# Altium footprint library lm3886 PcbLib.PcbLib: 19 footprints (part 1 of 2)
Each footprint in its own frame and in the unit in brackets; x right, y up, seen from the top. Pads: shape width x height; smd on the part's side, far side on the other; paste and mask are expansions set on the pad; w line width, h text height; cw(c..) or ccw(c..) is an arc to the next point about the centre after c.
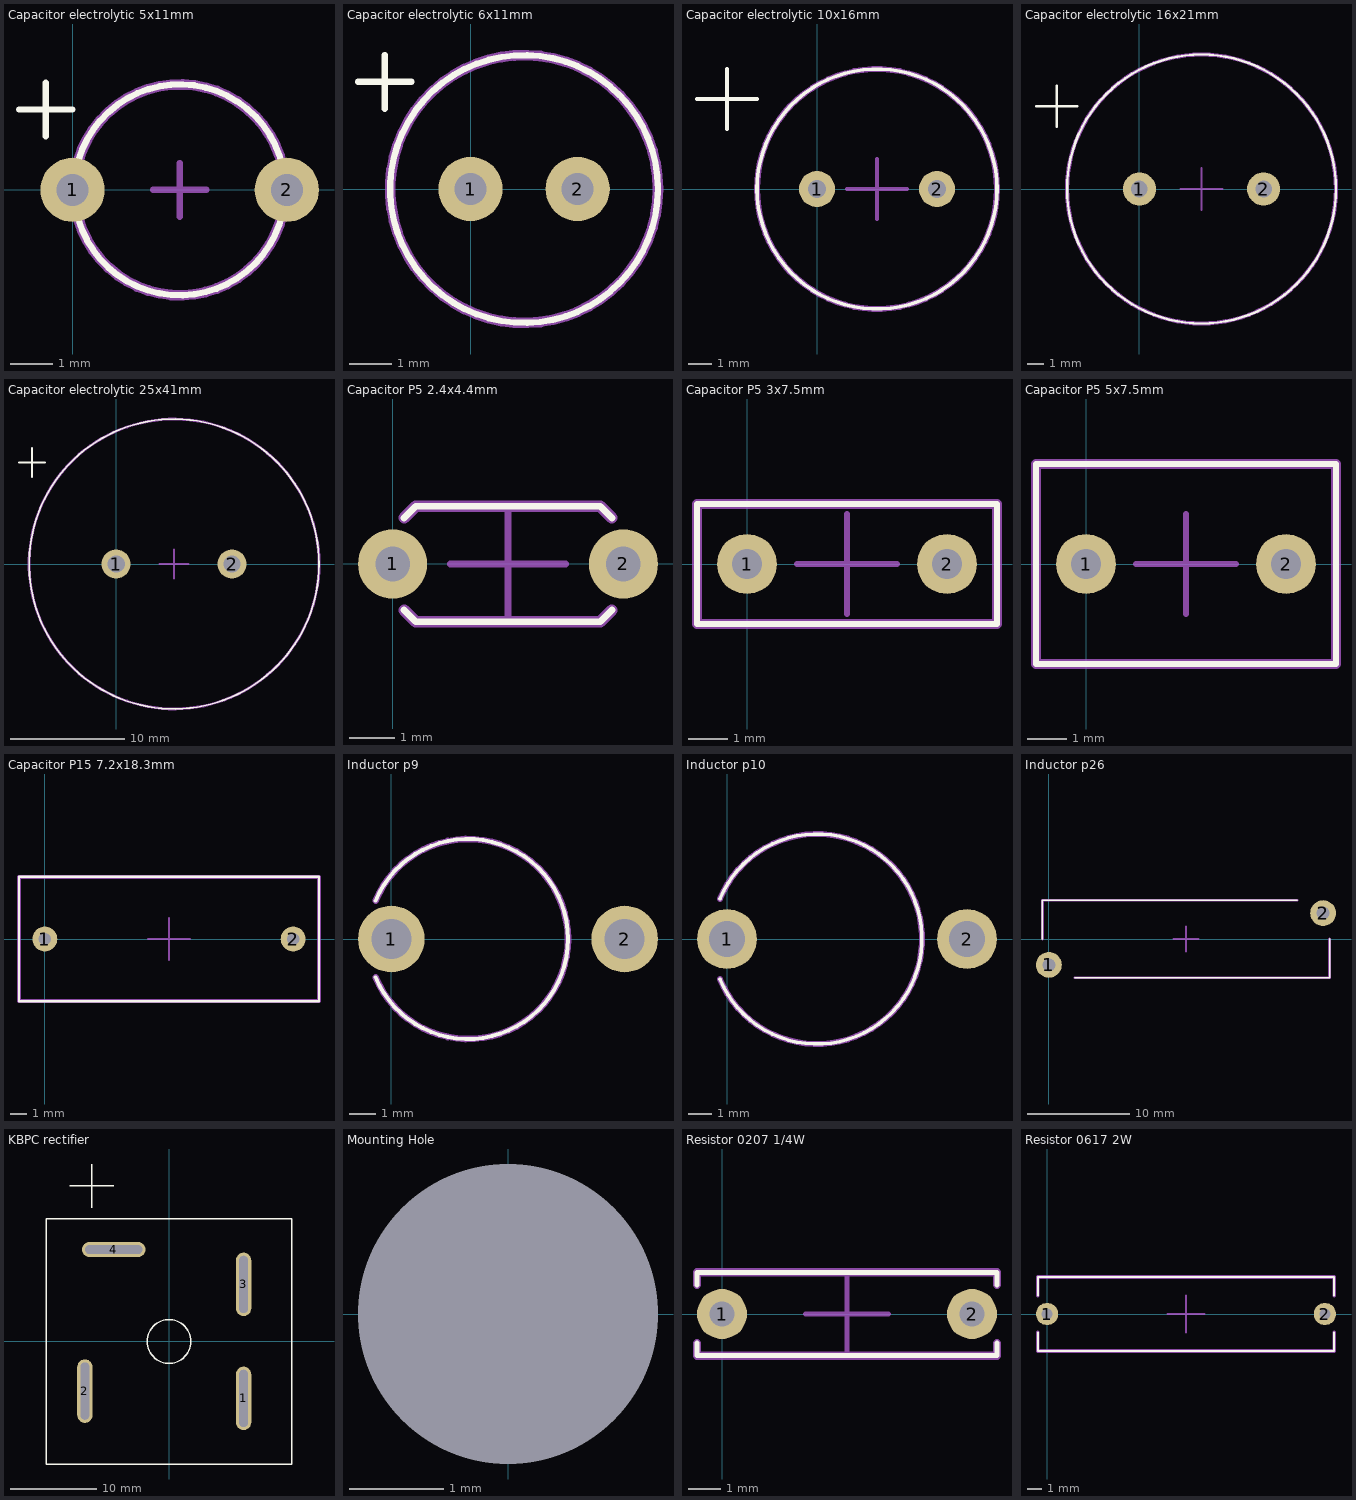
[diagram p0: the footprints below, top view; thin cyan lines are the x and y axes]

## Capacitor electrolytic 5x11mm [mil]
pads (2):
  round 60 hole 30: 1(0,0) 2(200,0)
Top Overlay:
  circle w5.91: c100,0 r98.43
  lines w5.91: -50,75 0,75 ; -25,50 -25,100
Top Assembly:
  circle w5.91: c100,0 r98.43
Top Courtyard:
  circle w10: c100,0 r98.43
Top Component Center:
  lines w5.91: 75,0 125,0 ; 100,-25 100,25
3D body: height 118.11, standoff 78.74, extent 150.16,-10 169.84,9.69
3D body: height 88.09, standoff 32.41, extent 152.16,-10 207.84,9.69
3D body: height 39.37, standoff -78.74, extent 190.16,-9.84 209.84,9.84
3D body: height 118.11, standoff 78.74, extent 30,-9.84 49.69,9.84
3D body: height 88.09, standoff 32.41, extent -7.84,-10 47.84,9.69
3D body: height 39.37, standoff -78.74, extent -9.84,-9.84 9.84,9.84
3D body: height 533.07, standoff 100, extent 1.57,-98.43 198.43,98.43

## Capacitor electrolytic 6x11mm [mil]
pads (2):
  round 60 hole 30: 1(0,0) 2(100,0)
Top Overlay:
  circle w5.91: c50,0 r125
  lines w5.91: -105,100 -55,100 ; -80,75 -80,125
Top Assembly:
  circle w5.91: c50,0 r125
Top Courtyard:
  circle w10: c50,0 r125
Top Component Center:
  lines w5.91: 75,0 125,0 ; 100,-25 100,25
3D body: height 433.07, standoff 0, extent -75,-125 175,125
3D body: height 0, standoff -100, extent -9.84,-9.84 9.84,9.84
3D body: height 0, standoff -100, extent 90.16,-9.84 109.84,9.84

## Capacitor electrolytic 10x16mm [mil]
pads (2):
  round 60 hole 30: 1(0,0) 2(200,0)
Top Overlay:
  circle w5.91: c100,0 r200
  lines w5.91: -200,150 -100,150 ; -150,100 -150,200
Top Assembly:
  circle w5.91: c100,0 r200
Top Courtyard:
  circle w10: c100,0 r200
Top Component Center:
  lines w5.91: 50,0 150,0 ; 100,-50 100,50
3D body: height 650, standoff 0, extent -100,-200 300,200
3D body: height 0, standoff -50, extent 190,-10 210,10
3D body: height 0, standoff -50, extent -10,-10 10,10

## Capacitor electrolytic 16x21mm [mil]
pads (2):
  round 80 hole 40: 1(0,0) 2(300,0)
Top Overlay:
  circle w5.91: c150,0 r325
  lines w5.91: -250,200 -150,200 ; -200,150 -200,250
Top Assembly:
  circle w5.91: c150,0 r325
Top Courtyard:
  circle w10: c150,0 r325
Top Component Center:
  lines w5.91: 100,0 200,0 ; 150,-50 150,50
3D body: height 850, standoff 0, extent -175,-325 475,325
3D body: height 0, standoff -50, extent 280,-20 320,20
3D body: height 0, standoff -50, extent -20,-20 20,20

## Capacitor electrolytic 25x41mm [mil]
pads (2):
  round 100 hole 60: 1(0,0) 2(400,0)
Top Overlay:
  circle w5.91: c200,0 r500
  lines w5.91: -335,350 -245,350 ; -290,300 -290,400
Top Assembly:
  circle w5.91: c200,0 r500
Top Courtyard:
  circle w10: c200,0 r500
Top Component Center:
  lines w5.91: 150,0 250,0 ; 200,-50 200,50
3D body: height 0, standoff -50, extent 370,-30 430,30
3D body: height 0, standoff -50, extent -30,-30 30,30
3D body: height 1600, standoff 0, extent -300,-500 700,500

## Capacitor P5 2.4x4.4mm [mil]
pads (2):
  round 60 hole 30: 1(0,0) 2(200,0)
Top Overlay:
  lines w5.91: 10,-40 20,-50 180,-50 190,-40 ; 10,40 20,50 180,50 190,40
Top Assembly:
  lines w5.91: 10,-40 20,-50 180,-50 190,-40 ; 10,40 20,50 180,50 190,40
Top Courtyard:
  lines w10: 10,-40 20,-50 180,-50 190,-40 ; 10,40 20,50 180,50 190,40
Top Component Center:
  lines w5.91: 50,0 150,0 ; 100,-50 100,50

## Capacitor P5 3x7.5mm [mil]
pads (2):
  round 60 hole 30: 1(0,0) 2(200,0)
Top Overlay:
  lines w5.91: -50,-60 -50,60 250,60 250,-60 -50,-60
Top Assembly:
  lines w5.91: -50,-60 -50,60 250,60 250,-60 -50,-60
Top Courtyard:
  lines w10: -50,-60 -50,60 250,60 250,-60 -50,-60
Top Component Center:
  lines w5.91: 50,0 150,0 ; 100,-50 100,50

## Capacitor P5 5x7.5mm [mil]
pads (2):
  round 60 hole 30: 1(0,0) 2(200,0)
Top Overlay:
  lines w5.91: -50,-100 -50,100 250,100 250,-100 -50,-100
Top Assembly:
  lines w5.91: -50,-100 -50,100 250,100 250,-100 -50,-100
Top Courtyard:
  lines w10: -50,-100 -50,100 250,100 250,-100 -50,-100
Top Component Center:
  lines w5.91: 50,0 150,0 ; 100,-50 100,50
3D body: height 0, standoff -50, extent -10,-10 10,10
3D body: height 0, standoff -50, extent 190,-10 210,10
3D body: height 400, standoff 0, extent -50,-100 250,100

## Capacitor P15 7.2x18.3mm [mil]
pads (2):
  round 60 hole 30: 1(0,0) 2(600,0)
Top Overlay:
  lines w5.91: -62.52,-150 -62.52,150 662.52,150 662.52,-150 -62.52,-150
Top Assembly:
  lines w5.91: -62.52,-150 -62.52,150 662.52,150 662.52,-150 -62.52,-150
Top Courtyard:
  lines w10: -62.52,-150 -62.52,150 662.52,150 662.52,-150 -62.52,-150
Top Component Center:
  lines w5.91: 250,0 350,0 ; 300,-50 300,50

## Inductor p9 [mil]
pads (2):
  round 100 hole 60: 1(0,0) 2(350,0)
Top Overlay:
  lines w5.91: -23.58,-57.4 ccw(c115,0) -23.58,57.4
Top Assembly:
  lines w5.91: -23.58,-57.4 ccw(c115,0) -23.58,57.4
Top Courtyard:
  lines w10: -23.58,-57.4 ccw(c115,0) -23.58,57.4
3D body: height 450.02, standoff 395.02, extent 265,-27.5 356.22,27.5
3D body: height 422.52, standoff -50, extent 322.5,-27.5 377.5,27.5
3D body: height 150, standoff -50, extent -27.5,-27.5 27.5,27.5
3D body: height 600, standoff 0, extent 40,-75 190,75
3D body: height 450, standoff 150, extent -35,-150 265,150

## Inductor p10 [mil]
pads (2):
  round 100 hole 60: 1(0,0) 2(400,0)
Top Overlay:
  lines w5.91: -11.68,-66.97 ccw(c150,0) -11.68,66.97
Top Assembly:
  lines w5.91: -11.68,-66.97 ccw(c150,0) -11.68,66.97
Top Courtyard:
  lines w10: -11.68,-66.97 ccw(c150,0) -11.68,66.97
3D body: height 600, standoff 0, extent 25,-125 275,125
3D body: height 450, standoff 100, extent -25,-175 325,175
3D body: height 150, standoff -50, extent -27.5,-27.5 27.5,27.5
3D body: height 450, standoff -50, extent 372.5,-27.5 427.5,27.5
3D body: height 477.48, standoff 422.52, extent 275,-27.48 425,27.48

## Inductor p26 [mm]
pads (2):
  round 2.54 hole 1.27: 1(0,-2.54) 2(26.94,2.54)
Top Overlay:
  lines w0.15: -0.635,0 -0.635,3.81 24.4,3.81 ; 2.54,-3.81 27.575,-3.81 27.575,0
Top Assembly:
  lines w0.15: -0.635,0 -0.635,3.81 24.4,3.81 ; 2.54,-3.81 27.575,-3.81 27.575,0
Top Courtyard:
  lines w0.254: -0.635,0 -0.635,3.81 24.4,3.81 ; 2.54,-3.81 27.575,-3.81 27.575,0
Top Component Center:
  lines w0.15: 12.2,0 14.74,0 ; 13.47,-1.27 13.47,1.27
3D body: height 7.62, standoff 0, extent 0,-3.81 26.94,3.81
3D body: height 5.08, standoff -2.54, extent -0.25,-2.79 0.25,-2.29
3D body: height 0, standoff -2.54, extent 26.69,2.29 27.19,2.79

## KBPC rectifier [mil]
pads (4):
  oval 70x290 hole 40 slot 260 at 90 deg: 1(340.12,-259.84) 2(-383.43,-226.38) 3(340.12,259.84)
  oval 290x70 hole 40 slot 260 at 0 deg: 4(-251.97,418.86)
Top Overlay:
  circle w5.91: c0,0 r100
  lines w5.91: -451.97,709.06 -251.97,709.06 ; -351.97,609.06 -351.97,809.06 ; -559.06,-559.06 -559.06,559.06 559.06,559.06 559.06,-559.06 -559.06,-559.06
3D body: height 437.2, standoff -0.2, extent -100,-100 100,100
3D body: height 437.01, standoff 0, extent -560,-560 560,560

## Mounting Hole [mm]
pads (1):
  round 0 hole 3.2 unplated: ""(0,0)

## Resistor 0207 1/4W [mil]
pads (2):
  round 60 hole 30: 1(0,0) 2(300,0)
Top Overlay:
  lines w5.91: -30,-35 -30,-50 330,-50 330,-35 ; -30,35 -30,50 330,50 330,35
Top Assembly:
  lines w5.91: -30,-35 -30,-50 330,-50 330,-35 ; -30,35 -30,50 330,50 330,35
Top Courtyard:
  lines w10: -30,-35 -30,-50 330,-50 330,-35 ; -30,35 -30,50 330,50 330,35
Top Component Center:
  lines w5.91: 100,0 200,0 ; 150,-50 150,50
3D body: height 50, standoff -50, extent 290,-10 310,10
3D body: height 50, standoff -50, extent -10,-10 10,10
3D body: height 60, standoff 40, extent 275,-10 300,10
3D body: height 60, standoff 40, extent 0,-10 25,10
3D body: height 100, standoff 0, extent 25,-50 275,50

## Resistor 0617 2W [mil]
pads (2):
  round 60 hole 30: 1(0,0) 2(750,0)
Top Overlay:
  lines w5.91: -25,-50 -25,-100 775,-100 775,-50 ; -25,50 -25,100 775,100 775,50
Top Assembly:
  lines w5.91: -25,-50 -25,-100 775,-100 775,-50 ; -25,50 -25,100 775,100 775,50
Top Courtyard:
  lines w10: -25,-50 -25,-100 775,-100 775,-50 ; -25,50 -25,100 775,100 775,50
Top Component Center:
  lines w5.91: 325,0 425,0 ; 375,-50 375,50
3D body: height 200, standoff 0, extent 70,-100 170,100
3D body: height 200, standoff 0, extent 580,-100 680,100
3D body: height 100, standoff -100, extent -9.84,-9.84 9.84,9.84
3D body: height 100, standoff -100, extent 740.16,-9.84 759.84,9.84
3D body: height 109.84, standoff 90.16, extent 675,-9.84 750,9.84
3D body: height 109.84, standoff 90.16, extent 0,-9.84 75,9.84
3D body: height 187.5, standoff 12.5, extent 70.83,-87.5 679.17,87.5